# Altium integrated library TI_Logic_Flip-Flop,Latch,Register.IntLib: 2598 symbols (part 71 of 122)
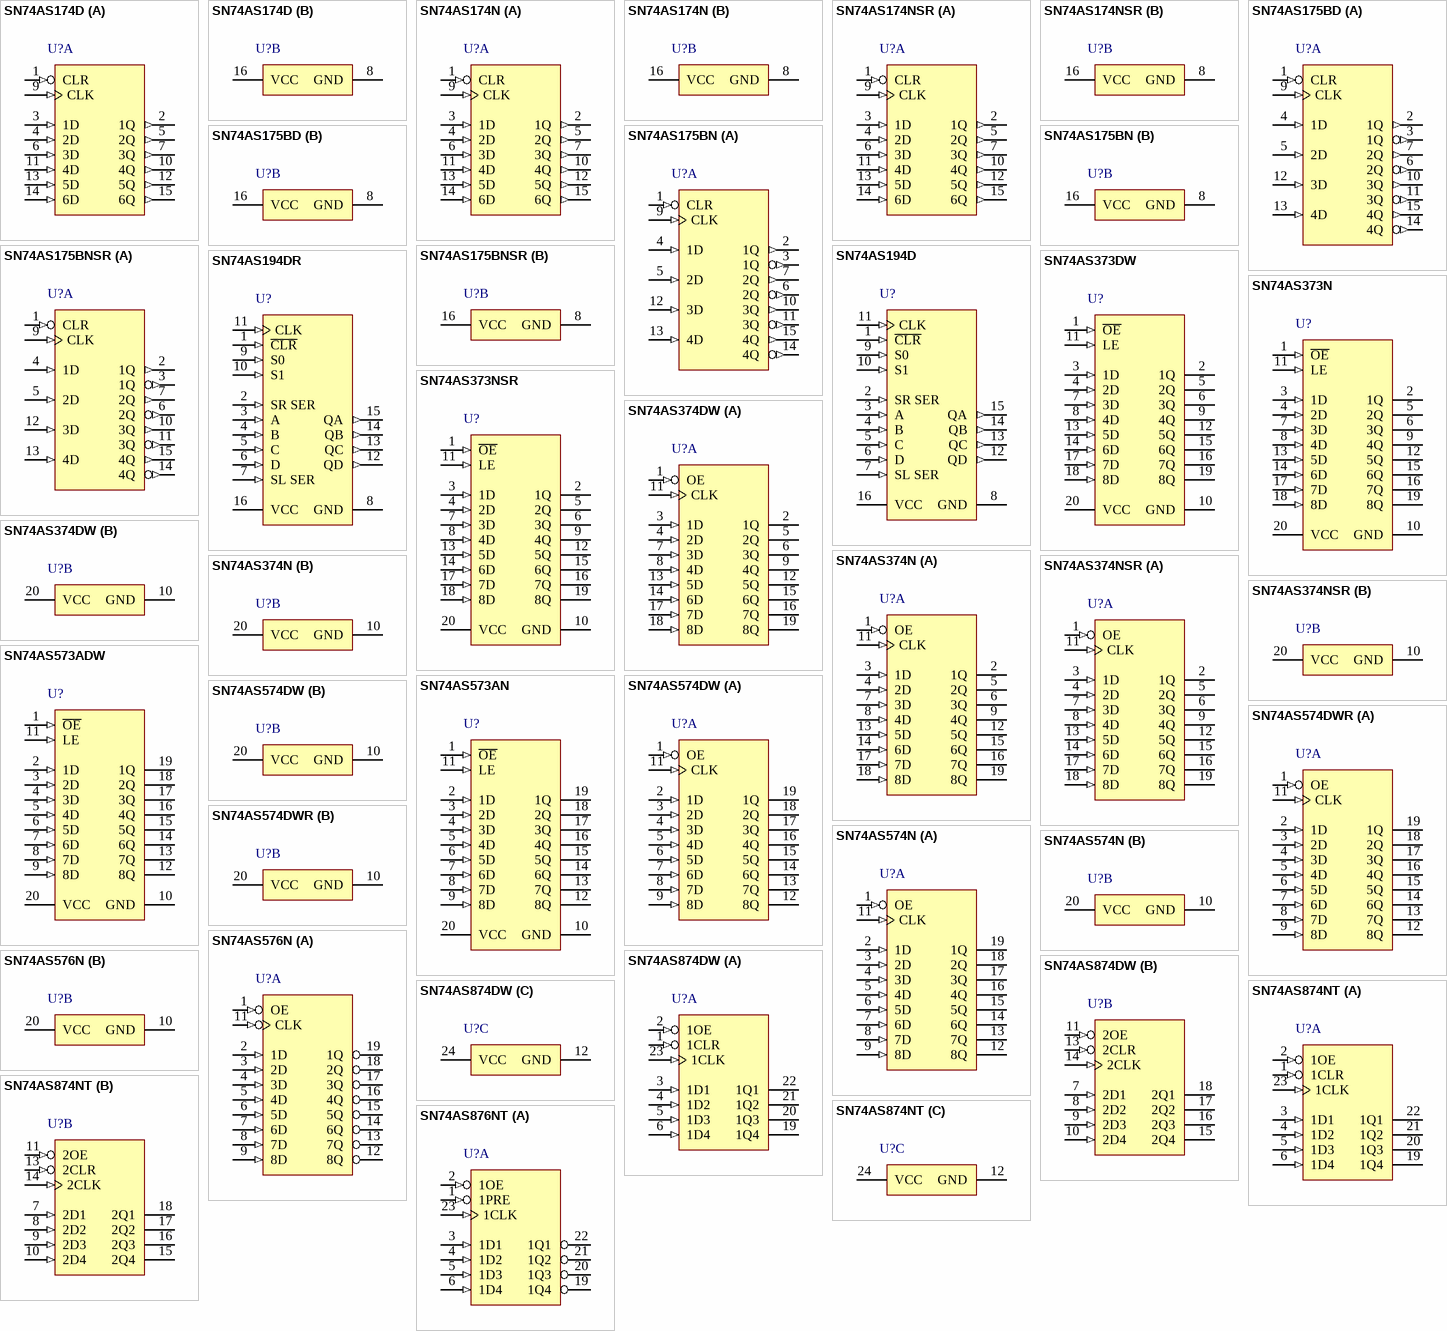
[diagram p209: symbols SN74AS174D to SN74AS876NT]

## SN74AS373NSR
designator U?
Octal D-Type Transparent Latches with 3-state Outputs, NS0020A, LARGE T&R; Generic Part Number: SN74AS373; Manufacturer: Texas Instruments; PartNumber: SN74AS373NSR; VCC(Min)(V): 4.5; VCC(Max)(V): 5.5; Output Type: TTL; Logic: True; Static Current: 87.5; ICC @ Nom Voltage(Max)(mA): 100; Bits(#): 8; F @ Nom Voltage(Max)(Mhz): 125; Rating: Catalog; Technology Family: AS; Voltage(Nom)(V): 5; Schmitt Trigger: No; Output Drive (IOL/IOH)(Max)(mA): 48/-15; Output Logic: Non-inverted; 3-State Output: Yes; tpd @ Nom Voltage(Max)(ns): 6; DatasheetVersion: SDAS083C; PackageReference: NS0020A; Supplier 1: Digi-Key; Supplier Part Number 1: 296-29129-2-ND; Supplier 2: Digi-Key; Supplier Part Number 2: 296-29129-1-ND; Supplier 3: Digi-Key; Supplier Part Number 3: 296-29129-6-ND; Supplier 4: Mouser; Supplier Part Number 4: 595-SN74AS373NSR; Input Type: TTL; Operating Temperature Range(C): 0 to 70; ComponentLink1Description: Manufacturer URL; ComponentLink1URL: http://www.ti.com/; ComponentLink2Description: Datasheet; ComponentLink2URL: http://www.ti.com/lit/ds/symlink/sn74as373.pdf; ComponentLink3Description: Package Specification; ComponentLink3URL: http://www.ti.com/lit/ml/msop002a/msop002a.pdf
footprint NS0020A_N (SOIC,20-Leads,Body 12.9x5.6mm,Pitch 1.27mm,IPC Medium Density)
footprint NS0020A_M (SOIC,20-Leads,Body 12.9x5.6mm,Pitch 1.27mm,IPC Low Density)
footprint NS0020A_L (SOIC,20-Leads,Body 12.9x5.6mm,Pitch 1.27mm,IPC High Density)
pins: 1 ~{OE} (in) "Output Enable", 2 1Q (hiz) "1Q Output", 3 1D (in) "1D Input", 4 2D (in) "2D Input", 5 2Q (hiz) "2Q Output", 6 3Q (hiz) "3Q Output", 7 3D (in) "3D Input", 8 4D (in) "4D Input", 9 4Q (hiz) "4Q Output", 10 GND (power) "Ground Pin", 11 LE (in) "Latch Enable", 12 5Q (hiz) "5Q Output", 13 5D (in) "5D Input", 14 6D (in) "6D Input", 15 6Q (hiz) "6Q Output", 16 7Q (hiz) "7Q Output", 17 7D (in) "7D Input", 18 8D (in) "8D Input", 19 8Q (hiz) "8Q Output", 20 VCC (power) "Power Pin"

## SN74AS374DW
designator U?
Octal D-Type Edge Triggered Flip-Flops with 3-State Outputs, DW0020A, TUBE; Generic Part Number: SN74AS374; Manufacturer: Texas Instruments; PartNumber: SN74AS374DW; VCC(Min)(V): 4.5; VCC(Max)(V): 5.5; Output Type: TTL; ICC @ Nom Voltage(Max)(mA): 128; Bits(#): 8; F @ Nom Voltage(Max)(Mhz): 125; Rating: Catalog; Technology Family: AS; Voltage(Nom)(V): 5; Schmitt Trigger: No; Output Drive (IOL/IOH)(Max)(mA): 48/-15; Output Logic: Non-inverted; 3-State Output: Yes; tpd @ Nom Voltage(Max)(ns): 9; DatasheetVersion: SDAS167C; PackageReference: DW0020A; Supplier 1: Digi-Key; Supplier Part Number 1: 296-6356-5-ND; Supplier 2: Mouser; Supplier Part Number 2: 595-SN74AS374DW; Input Type: TTL; Operating Temperature Range(C): 0 to 70; Code_JEDEC: MS-013; ComponentLink1Description: Manufacturer URL; ComponentLink1URL: http://www.ti.com/; ComponentLink2Description: Datasheet; ComponentLink2URL: http://www.ti.com/lit/ds/symlink/sn74as374.pdf; ComponentLink3Description: Package Specification; ComponentLink3URL: http://www.ti.com/lit/ml/mpds173a/mpds173a.pdf
footprint DW0020A_N (SOIC, 20-Leads, Body 13x7.6mm, Pitch 1.27mm, IPC Medium Density)
footprint DW0020A_M (SOIC, 20-Leads, Body 13x7.6mm, Pitch 1.27mm, IPC Low Density)
footprint DW0020A_L (SOIC, 20-Leads, Body 13x7.6mm, Pitch 1.27mm, IPC High Density)
part A pins: 1 OE (in), 2 1Q (hiz), 3 1D (in), 4 2D (in), 5 2Q (hiz), 6 3Q (hiz), 7 3D (in), 8 4D (in), 9 4Q (hiz), 11 CLK (in), 12 5Q (hiz), 13 5D (in), 14 6D (in), 15 6Q (hiz), 16 7Q (hiz), 17 7D (in), 18 8D (in), 19 8Q (hiz)
part B pins: 10 GND (power), 20 VCC (power)

## SN74AS374N
designator U?
Octal D-Type Edge Triggered Flip-Flops with 3-State Outputs, N0020A, TUBE; Generic Part Number: SN74AS374; Manufacturer: Texas Instruments; PartNumber: SN74AS374N; VCC(Min)(V): 4.5; VCC(Max)(V): 5.5; Output Type: TTL; ICC @ Nom Voltage(Max)(mA): 128; Bits(#): 8; F @ Nom Voltage(Max)(Mhz): 125; Rating: Catalog; Technology Family: AS; Voltage(Nom)(V): 5; Schmitt Trigger: No; Output Drive (IOL/IOH)(Max)(mA): 48/-15; Output Logic: Non-inverted; 3-State Output: Yes; tpd @ Nom Voltage(Max)(ns): 9; DatasheetVersion: SDAS167C; PackageReference: N0020A; Supplier 1: Digi-Key; Supplier Part Number 1: 296-6357-5-ND; Supplier 2: Farnell; Supplier Part Number 2: 1750002; Supplier 3: Mouser; Supplier Part Number 3: 595-SN74AS374N; Input Type: TTL; Operating Temperature Range(C): 0 to 70; Code_JEDEC: MS-001; ComponentLink1Description: Manufacturer URL; ComponentLink1URL: http://www.ti.com/; ComponentLink2Description: Datasheet; ComponentLink2URL: http://www.ti.com/lit/ds/symlink/sn74as374.pdf; ComponentLink3Description: Package Specification; ComponentLink3URL: http://www.ti.com/lit/ml/mpdi002c/mpdi002c.pdf
footprint N0020A (DIP, 20-Leads, Body 26.9x6.6mm, Pitch 2.54mm)
part A pins: 1 OE (in), 2 1Q (hiz), 3 1D (in), 4 2D (in), 5 2Q (hiz), 6 3Q (hiz), 7 3D (in), 8 4D (in), 9 4Q (hiz), 11 CLK (in), 12 5Q (hiz), 13 5D (in), 14 6D (in), 15 6Q (hiz), 16 7Q (hiz), 17 7D (in), 18 8D (in), 19 8Q (hiz)
part B pins: 10 GND (power), 20 VCC (power)

## SN74AS374NSR
designator U?
Octal D-Type Edge Triggered Flip-Flops with 3-State Outputs, NS0020A, LARGE T&R; Generic Part Number: SN74AS374; Manufacturer: Texas Instruments; PartNumber: SN74AS374NSR; VCC(Min)(V): 4.5; VCC(Max)(V): 5.5; Output Type: TTL; ICC @ Nom Voltage(Max)(mA): 128; Bits(#): 8; F @ Nom Voltage(Max)(Mhz): 125; Rating: Catalog; Technology Family: AS; Voltage(Nom)(V): 5; Schmitt Trigger: No; Output Drive (IOL/IOH)(Max)(mA): 48/-15; Output Logic: Non-inverted; 3-State Output: Yes; tpd @ Nom Voltage(Max)(ns): 9; DatasheetVersion: SDAS167C; PackageReference: NS0020A; Supplier 1: Digi-Key; Supplier Part Number 1: 296-28872-2-ND; Supplier 2: Digi-Key; Supplier Part Number 2: 296-28872-1-ND; Supplier 3: Digi-Key; Supplier Part Number 3: 296-28872-6-ND; Supplier 4: Mouser; Supplier Part Number 4: 595-SN74AS374NSR; Input Type: TTL; Operating Temperature Range(C): 0 to 70; ComponentLink1Description: Manufacturer URL; ComponentLink1URL: http://www.ti.com/; ComponentLink2Description: Datasheet; ComponentLink2URL: http://www.ti.com/lit/ds/symlink/sn74as374.pdf; ComponentLink3Description: Package Specification; ComponentLink3URL: http://www.ti.com/lit/ml/msop002a/msop002a.pdf
footprint NS0020A_N (SOIC,20-Leads,Body 12.9x5.6mm,Pitch 1.27mm,IPC Medium Density)
footprint NS0020A_M (SOIC,20-Leads,Body 12.9x5.6mm,Pitch 1.27mm,IPC Low Density)
footprint NS0020A_L (SOIC,20-Leads,Body 12.9x5.6mm,Pitch 1.27mm,IPC High Density)
part A pins: 1 OE (in), 2 1Q (hiz), 3 1D (in), 4 2D (in), 5 2Q (hiz), 6 3Q (hiz), 7 3D (in), 8 4D (in), 9 4Q (hiz), 11 CLK (in), 12 5Q (hiz), 13 5D (in), 14 6D (in), 15 6Q (hiz), 16 7Q (hiz), 17 7D (in), 18 8D (in), 19 8Q (hiz)
part B pins: 10 GND (power), 20 VCC (power)

## SN74AS573ADW
designator U?
Octal D-Type Transparent Latches With 3-State Outputs, DW0020A, TUBE; Generic Part Number: SN74AS573A; Manufacturer: Texas Instruments; PartNumber: SN74AS573ADW; VCC(Min)(V): 4.5; VCC(Max)(V): 5.5; Output Type: TTL; Logic: True; Static Current: 91.5; ICC @ Nom Voltage(Max)(mA): 106; Bits(#): 8; F @ Nom Voltage(Max)(Mhz): 125; Rating: Catalog; Technology Family: AS; Voltage(Nom)(V): 5; Schmitt Trigger: No; Output Drive (IOL/IOH)(Max)(mA): 48/-15; Output Logic: Non-inverted; 3-State Output: Yes; DatasheetVersion: SDAS048D; PackageReference: DW0020A; Supplier 1: Digi-Key; Supplier Part Number 1: 296-6361-5-ND; Supplier 2: Farnell; Supplier Part Number 2: 1750120; Supplier 3: Mouser; Supplier Part Number 3: 595-SN74AS573ADW; Input Type: TTL; Operating Temperature Range(C): 0 to 70; tpd @ Nom Voltage(Max)(ns): 8; Code_JEDEC: MS-013; ComponentLink1Description: Manufacturer URL; ComponentLink1URL: http://www.ti.com/; ComponentLink2Description: Datasheet; ComponentLink2URL: http://www.ti.com/lit/ds/symlink/sn74as573a.pdf; ComponentLink3Description: Package Specification; ComponentLink3URL: http://www.ti.com/lit/ml/mpds173a/mpds173a.pdf
footprint DW0020A_N (SOIC, 20-Leads, Body 13x7.6mm, Pitch 1.27mm, IPC Medium Density)
footprint DW0020A_M (SOIC, 20-Leads, Body 13x7.6mm, Pitch 1.27mm, IPC Low Density)
footprint DW0020A_L (SOIC, 20-Leads, Body 13x7.6mm, Pitch 1.27mm, IPC High Density)
pins: 1 ~{OE} (in), 2 1D (in), 3 2D (in), 4 3D (in), 5 4D (in), 6 5D (in), 7 6D (in), 8 7D (in), 9 8D (in), 10 GND (power), 11 LE (in), 12 8Q (hiz), 13 7Q (hiz), 14 6Q (hiz), 15 5Q (hiz), 16 4Q (hiz), 17 3Q (hiz), 18 2Q (hiz), 19 1Q (hiz), 20 VCC (power)

## SN74AS573AN
designator U?
Octal D-Type Transparent Latches With 3-State Outputs, N0020A, TUBE; Generic Part Number: SN74AS573A; Manufacturer: Texas Instruments; PartNumber: SN74AS573AN; VCC(Min)(V): 4.5; VCC(Max)(V): 5.5; Output Type: TTL; Logic: True; Static Current: 91.5; ICC @ Nom Voltage(Max)(mA): 106; Bits(#): 8; F @ Nom Voltage(Max)(Mhz): 125; Rating: Catalog; Technology Family: AS; Voltage(Nom)(V): 5; Schmitt Trigger: No; Output Drive (IOL/IOH)(Max)(mA): 48/-15; Output Logic: Non-inverted; 3-State Output: Yes; DatasheetVersion: SDAS048D; PackageReference: N0020A; Supplier 1: Digi-Key; Supplier Part Number 1: 296-6362-5-ND; Supplier 2: Newark; Supplier Part Number 2: 08F6213; Supplier 3: Mouser; Supplier Part Number 3: 595-SN74AS573AN; Input Type: TTL; Operating Temperature Range(C): 0 to 70; tpd @ Nom Voltage(Max)(ns): 8; Code_JEDEC: MS-001; ComponentLink1Description: Manufacturer URL; ComponentLink1URL: http://www.ti.com/; ComponentLink2Description: Datasheet; ComponentLink2URL: http://www.ti.com/lit/ds/symlink/sn74as573a.pdf; ComponentLink3Description: Package Specification; ComponentLink3URL: http://www.ti.com/lit/ml/mpdi002c/mpdi002c.pdf
footprint N0020A (DIP, 20-Leads, Body 26.9x6.6mm, Pitch 2.54mm)
pins: 1 ~{OE} (in), 2 1D (in), 3 2D (in), 4 3D (in), 5 4D (in), 6 5D (in), 7 6D (in), 8 7D (in), 9 8D (in), 10 GND (power), 11 LE (in), 12 8Q (hiz), 13 7Q (hiz), 14 6Q (hiz), 15 5Q (hiz), 16 4Q (hiz), 17 3Q (hiz), 18 2Q (hiz), 19 1Q (hiz), 20 VCC (power)

## SN74AS574DW
designator U?
Octal D-Type Edge-Triggered Flip-Flops With 3-State Outputs, DW0020A, TUBE; Generic Part Number: SN74AS574; Manufacturer: Texas Instruments; PartNumber: SN74AS574DW; VCC(Min)(V): 4.5; VCC(Max)(V): 5.5; Output Type: TTL; ICC @ Nom Voltage(Max)(mA): 142; Bits(#): 8; F @ Nom Voltage(Max)(Mhz): 125; Rating: Catalog; Technology Family: AS; Voltage(Nom)(V): 5; Schmitt Trigger: No; Output Drive (IOL/IOH)(Max)(mA): 48/-15; Output Logic: Non-inverted; 3-State Output: Yes; tpd @ Nom Voltage(Max)(ns): 9; DatasheetVersion: SDAS165B; PackageReference: DW0020A; Supplier 1: Digi-Key; Supplier Part Number 1: 296-6363-5-ND; Supplier 2: Farnell; Supplier Part Number 2: 1750003; Supplier 3: Mouser; Supplier Part Number 3: 595-SN74AS574DW; Input Type: TTL; Operating Temperature Range(C): 0 to 70; Code_JEDEC: MS-013; ComponentLink1Description: Manufacturer URL; ComponentLink1URL: http://www.ti.com/; ComponentLink2Description: Datasheet; ComponentLink2URL: http://www.ti.com/lit/ds/symlink/sn74as574.pdf; ComponentLink3Description: Package Specification; ComponentLink3URL: http://www.ti.com/lit/ml/mpds173a/mpds173a.pdf
footprint DW0020A_N (SOIC, 20-Leads, Body 13x7.6mm, Pitch 1.27mm, IPC Medium Density)
footprint DW0020A_M (SOIC, 20-Leads, Body 13x7.6mm, Pitch 1.27mm, IPC Low Density)
footprint DW0020A_L (SOIC, 20-Leads, Body 13x7.6mm, Pitch 1.27mm, IPC High Density)
part A pins: 1 OE (in), 2 1D (in), 3 2D (in), 4 3D (in), 5 4D (in), 6 5D (in), 7 6D (in), 8 7D (in), 9 8D (in), 11 CLK (in), 12 8Q (hiz), 13 7Q (hiz), 14 6Q (hiz), 15 5Q (hiz), 16 4Q (hiz), 17 3Q (hiz), 18 2Q (hiz), 19 1Q (hiz)
part B pins: 10 GND (power), 20 VCC (power)

## SN74AS574DWR
designator U?
Octal D-Type Edge-Triggered Flip-Flops With 3-State Outputs, DW0020A, LARGE T&R; Generic Part Number: SN74AS574; Manufacturer: Texas Instruments; PartNumber: SN74AS574DWR; VCC(Min)(V): 4.5; VCC(Max)(V): 5.5; Output Type: TTL; ICC @ Nom Voltage(Max)(mA): 142; Bits(#): 8; F @ Nom Voltage(Max)(Mhz): 125; Rating: Catalog; Technology Family: AS; Voltage(Nom)(V): 5; Schmitt Trigger: No; Output Drive (IOL/IOH)(Max)(mA): 48/-15; Output Logic: Non-inverted; 3-State Output: Yes; tpd @ Nom Voltage(Max)(ns): 9; DatasheetVersion: SDAS165B; PackageReference: DW0020A; Supplier 1: Digi-Key; Supplier Part Number 1: 296-28999-2-ND; Supplier 2: Digi-Key; Supplier Part Number 2: 296-28999-1-ND; Supplier 3: Digi-Key; Supplier Part Number 3: 296-28999-6-ND; Supplier 4: Mouser; Supplier Part Number 4: 595-SN74AS574DWR; Input Type: TTL; Operating Temperature Range(C): 0 to 70; Code_JEDEC: MS-013; ComponentLink1Description: Manufacturer URL; ComponentLink1URL: http://www.ti.com/; ComponentLink2Description: Datasheet; ComponentLink2URL: http://www.ti.com/lit/ds/symlink/sn74as574.pdf; ComponentLink3Description: Package Specification; ComponentLink3URL: http://www.ti.com/lit/ml/mpds173a/mpds173a.pdf
footprint DW0020A_N (SOIC, 20-Leads, Body 13x7.6mm, Pitch 1.27mm, IPC Medium Density)
footprint DW0020A_M (SOIC, 20-Leads, Body 13x7.6mm, Pitch 1.27mm, IPC Low Density)
footprint DW0020A_L (SOIC, 20-Leads, Body 13x7.6mm, Pitch 1.27mm, IPC High Density)
part A pins: 1 OE (in), 2 1D (in), 3 2D (in), 4 3D (in), 5 4D (in), 6 5D (in), 7 6D (in), 8 7D (in), 9 8D (in), 11 CLK (in), 12 8Q (hiz), 13 7Q (hiz), 14 6Q (hiz), 15 5Q (hiz), 16 4Q (hiz), 17 3Q (hiz), 18 2Q (hiz), 19 1Q (hiz)
part B pins: 10 GND (power), 20 VCC (power)

## SN74AS574N
designator U?
Octal D-Type Edge-Triggered Flip-Flops With 3-State Outputs, N0020A, TUBE; Generic Part Number: SN74AS574; Manufacturer: Texas Instruments; PartNumber: SN74AS574N; VCC(Min)(V): 4.5; VCC(Max)(V): 5.5; Output Type: TTL; ICC @ Nom Voltage(Max)(mA): 142; Bits(#): 8; F @ Nom Voltage(Max)(Mhz): 125; Rating: Catalog; Technology Family: AS; Voltage(Nom)(V): 5; Schmitt Trigger: No; Output Drive (IOL/IOH)(Max)(mA): 48/-15; Output Logic: Non-inverted; 3-State Output: Yes; tpd @ Nom Voltage(Max)(ns): 9; DatasheetVersion: SDAS165B; PackageReference: N0020A; Supplier 1: Digi-Key; Supplier Part Number 1: 296-33811-5-ND; Supplier 2: Farnell; Supplier Part Number 2: 1749828; Supplier 3: Mouser; Supplier Part Number 3: 595-SN74AS574N; Input Type: TTL; Operating Temperature Range(C): 0 to 70; Code_JEDEC: MS-001; ComponentLink1Description: Manufacturer URL; ComponentLink1URL: http://www.ti.com/; ComponentLink2Description: Datasheet; ComponentLink2URL: http://www.ti.com/lit/ds/symlink/sn74as574.pdf; ComponentLink3Description: Package Specification; ComponentLink3URL: http://www.ti.com/lit/ml/mpdi002c/mpdi002c.pdf
footprint N0020A (DIP, 20-Leads, Body 26.9x6.6mm, Pitch 2.54mm)
part A pins: 1 OE (in), 2 1D (in), 3 2D (in), 4 3D (in), 5 4D (in), 6 5D (in), 7 6D (in), 8 7D (in), 9 8D (in), 11 CLK (in), 12 8Q (hiz), 13 7Q (hiz), 14 6Q (hiz), 15 5Q (hiz), 16 4Q (hiz), 17 3Q (hiz), 18 2Q (hiz), 19 1Q (hiz)
part B pins: 10 GND (power), 20 VCC (power)

## SN74AS576N
designator U?
Octal D-Type Edge-Triggered Flip-Flops With 3-State Outputs, N0020A, TUBE; Generic Part Number: SN74AS576; Manufacturer: Texas Instruments; PartNumber: SN74AS576N; VCC(Min)(V): 4.5; VCC(Max)(V): 5.5; Output Type: TTL; ICC @ Nom Voltage(Max)(mA): 135; Bits(#): 8; F @ Nom Voltage(Max)(Mhz): 125; Rating: Catalog; Technology Family: AS; Voltage(Nom)(V): 5; Schmitt Trigger: No; Output Drive (IOL/IOH)(Max)(mA): 48/-15; Output Logic: Inverted; 3-State Output: Yes; tpd @ Nom Voltage(Max)(ns): 9; DatasheetVersion: SDAS065B; PackageReference: N0020A; Supplier 1: Digi-Key; Supplier Part Number 1: 296-6365-5-ND; Supplier 2: Farnell; Supplier Part Number 2: 1750005; Supplier 3: Mouser; Supplier Part Number 3: 595-SN74AS576N; Input Type: TTL; Operating Temperature Range(C): 0 to 70; Code_JEDEC: MS-001; ComponentLink1Description: Manufacturer URL; ComponentLink1URL: http://www.ti.com/; ComponentLink2Description: Datasheet; ComponentLink2URL: http://www.ti.com/lit/ds/symlink/sn74as576.pdf; ComponentLink3Description: Package Specification; ComponentLink3URL: http://www.ti.com/lit/ml/mpdi002c/mpdi002c.pdf
footprint N0020A (DIP, 20-Leads, Body 26.9x6.6mm, Pitch 2.54mm)
part A pins: 1 OE (in), 2 1D (in), 3 2D (in), 4 3D (in), 5 4D (in), 6 5D (in), 7 6D (in), 8 7D (in), 9 8D (in), 11 CLK (in), 12 8Q (hiz), 13 7Q (hiz), 14 6Q (hiz), 15 5Q (hiz), 16 4Q (hiz), 17 3Q (hiz), 18 2Q (hiz), 19 1Q (hiz)
part B pins: 10 GND (power), 20 VCC (power)

## SN74AS874DW
designator U?
Dual 4-Bit D-Type Edge-Triggered Flip-Flops, DW0024A, TUBE; Generic Part Number: SN74AS874; Manufacturer: Texas Instruments; PartNumber: SN74AS874DW; VCC(Min)(V): 4.5; VCC(Max)(V): 5.5; Output Type: TTL; ICC @ Nom Voltage(Max)(mA): 160; Bits(#): 8; F @ Nom Voltage(Max)(Mhz): 125; Rating: Catalog; Technology Family: AS; Voltage(Nom)(V): 5; Schmitt Trigger: No; Output Drive (IOL/IOH)(Max)(mA): 48/-15; Output Logic: Non-inverted; 3-State Output: Yes; tpd @ Nom Voltage(Max)(ns): 10.5; DatasheetVersion: SDAS061C; PackageReference: DW0024A; Supplier 1: Digi-Key; Supplier Part Number 1: SN74AS874DW-ND; Supplier 2: Farnell; Supplier Part Number 2: 1749831; Supplier 3: Mouser; Supplier Part Number 3: 595-SN74AS874DW; Input Type: TTL; Operating Temperature Range(C): 0 to 70; Code_JEDEC: MS-013; ComponentLink1Description: Manufacturer URL; ComponentLink1URL: http://www.ti.com/; ComponentLink2Description: Datasheet; ComponentLink2URL: http://www.ti.com/lit/ds/symlink/sn74as874.pdf; ComponentLink3Description: Package Specification; ComponentLink3URL: http://www.ti.com/lit/ml/mpds174a/mpds174a.pdf
footprint DW0024A_N (SOIC, 24-Leads, Body 15.6x7.6mm, Pitch 1.27mm, IPC Medium Density)
footprint DW0024A_M (SOIC, 24-Leads, Body 15.6x7.6mm, Pitch 1.27mm, IPC Low Density)
footprint DW0024A_L (SOIC, 24-Leads, Body 15.6x7.6mm, Pitch 1.27mm, IPC High Density)
part A pins: 1 1CLR (in), 2 1OE (in), 3 1D1 (in), 4 1D2 (in), 5 1D3 (in), 6 1D4 (in), 19 1Q4 (hiz), 20 1Q3 (hiz), 21 1Q2 (hiz), 22 1Q1 (hiz), 23 1CLK (in)
part B pins: 7 2D1 (in), 8 2D2 (in), 9 2D3 (in), 10 2D4 (in), 11 2OE (in), 13 2CLR (in), 14 2CLK (in), 15 2Q4 (hiz), 16 2Q3 (hiz), 17 2Q2 (hiz), 18 2Q1 (hiz)
part C pins: 12 GND (power), 24 VCC (power)

## SN74AS874NT
designator U?
Dual 4-Bit D-Type Edge-Triggered Flip-Flops, NT0024A, TUBE; Generic Part Number: SN74AS874; Manufacturer: Texas Instruments; PartNumber: SN74AS874NT; VCC(Min)(V): 4.5; VCC(Max)(V): 5.5; Output Type: TTL; ICC @ Nom Voltage(Max)(mA): 160; Bits(#): 8; F @ Nom Voltage(Max)(Mhz): 125; Rating: Catalog; Technology Family: AS; Voltage(Nom)(V): 5; Schmitt Trigger: No; Output Drive (IOL/IOH)(Max)(mA): 48/-15; Output Logic: Non-inverted; 3-State Output: Yes; tpd @ Nom Voltage(Max)(ns): 10.5; DatasheetVersion: SDAS061C; PackageReference: NT0024A; Supplier 1: Digi-Key; Supplier Part Number 1: 296-6381-5-ND; Supplier 2: Newark; Supplier Part Number 2: 08F6266; Supplier 3: Mouser; Supplier Part Number 3: 595-SN74AS874NT; Input Type: TTL; Operating Temperature Range(C): 0 to 70; ComponentLink1Description: Manufacturer URL; ComponentLink1URL: http://www.ti.com/; ComponentLink2Description: Datasheet; ComponentLink2URL: http://www.ti.com/lit/ds/symlink/sn74as874.pdf; ComponentLink3Description: Package Specification; ComponentLink3URL: http://www.ti.com/lit/ml/mpdi004a/mpdi004a.pdf
footprint NT0024A (DIP, 24-Leads, Body 32.05x7.1mm, Pitch 2.54mm)
part A pins: 1 1CLR (in), 2 1OE (in), 3 1D1 (in), 4 1D2 (in), 5 1D3 (in), 6 1D4 (in), 19 1Q4 (hiz), 20 1Q3 (hiz), 21 1Q2 (hiz), 22 1Q1 (hiz), 23 1CLK (in)
part B pins: 7 2D1 (in), 8 2D2 (in), 9 2D3 (in), 10 2D4 (in), 11 2OE (in), 13 2CLR (in), 14 2CLK (in), 15 2Q4 (hiz), 16 2Q3 (hiz), 17 2Q2 (hiz), 18 2Q1 (hiz)
part C pins: 12 GND (power), 24 VCC (power)

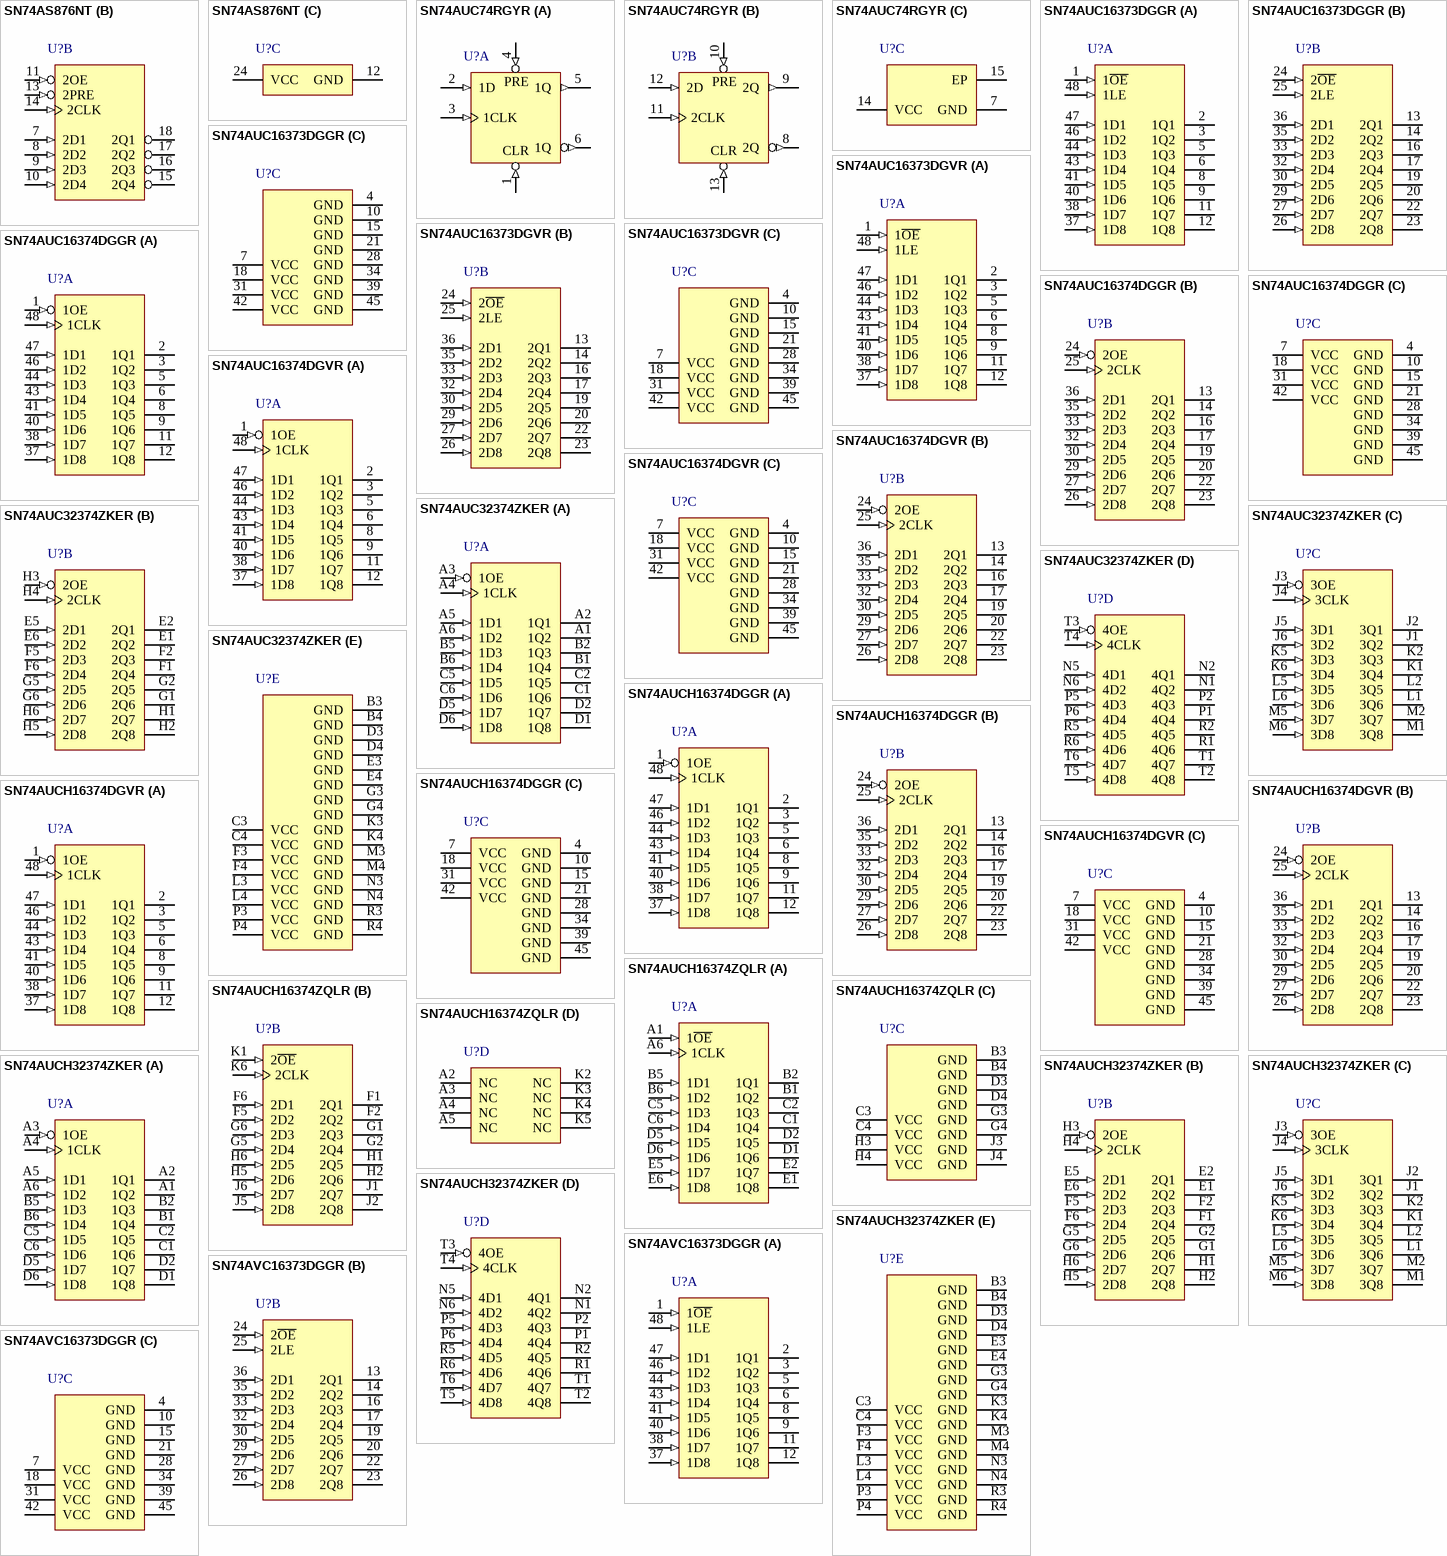
[diagram p83: symbols SN74AS876NT to SN74AVC16373DGGR]

## SN74AS876NT
designator U?
Dual 4-Bit D-Type Edge-Triggered Flip-Flops, NT0024A, TUBE; Generic Part Number: SN74AS876; Manufacturer: Texas Instruments; PartNumber: SN74AS876NT; DatasheetVersion: SDAS061C; PackageReference: NT0024A; Supplier 1: Digi-Key; Supplier Part Number 1: 296-33824-5-ND; Supplier 2: Mouser; Supplier Part Number 2: 595-SN74AS876NT; ComponentLink1Description: Manufacturer URL; ComponentLink1URL: http://www.ti.com/; ComponentLink2Description: Datasheet; ComponentLink2URL: http://www.ti.com/lit/ds/symlink/sn74as876.pdf; ComponentLink3Description: Package Specification; ComponentLink3URL: http://www.ti.com/lit/ml/mpdi004a/mpdi004a.pdf
footprint NT0024A (DIP, 24-Leads, Body 32.05x7.1mm, Pitch 2.54mm)
part A pins: 1 1PRE (in), 2 1OE (in), 3 1D1 (in), 4 1D2 (in), 5 1D3 (in), 6 1D4 (in), 19 1Q4 (hiz), 20 1Q3 (hiz), 21 1Q2 (hiz), 22 1Q1 (hiz), 23 1CLK (in)
part B pins: 7 2D1 (in), 8 2D2 (in), 9 2D3 (in), 10 2D4 (in), 11 2OE (in), 13 2PRE (in), 14 2CLK (in), 15 2Q4 (hiz), 16 2Q3 (hiz), 17 2Q2 (hiz), 18 2Q1 (hiz)
part C pins: 12 GND (power), 24 VCC (power)

## SN74AUC74RGYR
designator U?
Dual Positive-Edge-Triggered D-Type Flip-Flops with Clear and Preset, RGY0014A, LARGE T&R; Generic Part Number: SN74AUC74; Manufacturer: Texas Instruments; PartNumber: SN74AUC74RGYR; VCC(Min)(V): 0.8; VCC(Max)(V): 2.7; Output Type: CMOS; ICC @ Nom Voltage(Max)(mA): 0.01; Bits(#): 2; F @ Nom Voltage(Max)(Mhz): 250; Rating: Catalog; Technology Family: AUC; Voltage(Nom)(V): 0.8,1.2,1.5,1.8,2.5; Schmitt Trigger: No; Output Drive (IOL/IOH)(Max)(mA): 9/-9; Output Logic: Inverted,Non-inverted; tpd @ Nom Voltage(Max)(ns): 9.5,4,2.5,2.1,1.4; DatasheetVersion: SCES483A; PackageReference: RGY0014A; Supplier 1: Digi-Key; Supplier Part Number 1: 296-17820-2-ND; Supplier 2: Digi-Key; Supplier Part Number 2: 296-17820-1-ND; Supplier 3: Digi-Key; Supplier Part Number 3: 296-17820-6-ND; Supplier 4: Farnell; Supplier Part Number 4: 1606283; Supplier 5: Farnell; Supplier Part Number 5: 1606283RL; Supplier 6: Newark; Supplier Part Number 6: 87H2615; Supplier 7: Mouser; Supplier Part Number 7: 595-SN74AUC74RGYR; Input Type: CMOS; Operating Temperature Range(C): -40 to 85; 3-State Output: No; Code_JEDEC: MO-241; ComponentLink1Description: Manufacturer URL; ComponentLink1URL: http://www.ti.com/; ComponentLink2Description: Datasheet; ComponentLink2URL: http://www.ti.com/lit/ds/symlink/sn74auc74.pdf; ComponentLink3Description: Package Specification; ComponentLink3URL: http://www.ti.com/lit/ml/mpqf114g/mpqf114g.pdf
footprint RGY0014A_V (QFN, 14-Leads, Body 3.5x3.5mm, Thermal Pad 2.05x2.05mm, TI Recommend)
part A pins: 1 1~{CLR} (in), 2 1D (in), 3 1CLK (in), 4 1~{PRE} (in), 5 1Q (out), 6 1Q (out)
part B pins: 8 2Q (out), 9 2Q (out), 10 2~{PRE} (in), 11 2CLK (in), 12 2D (in), 13 2~{CLR} (in)
part C pins: 7 GND (power), 14 VCC (power) "Supply voltage input", 15 EP
part A text: PRE; CLR
part B text: PRE; CLR

## SN74AUC16373DGGR
designator U?
16-Bit Transparent D-Type Latch With 3-State Outputs, DGG0048A, LARGE T&R; Generic Part Number: SN74AUC16373; Manufacturer: Texas Instruments; PartNumber: SN74AUC16373DGGR; VCC(Min)(V): 0.8; VCC(Max)(V): 2.7; Output Type: CMOS; Logic: True; Static Current: 20 uA; ICC @ Nom Voltage(Max)(mA): 0.02; Input Type: CMOS,TTL; Bits(#): 16; F @ Nom Voltage(Max)(Mhz): 250; Rating: Catalog; Technology Family: AUC; Voltage(Nom)(V): 0.8,1.2,1.5,1.8,2.5; Schmitt Trigger: No; Output Drive (IOL/IOH)(Max)(mA): 9/-9; Output Logic: Non-inverted; 3-State Output: Yes; tpd @ Nom Voltage(Max)(ns): 8,3.8,2.4,1.9; DatasheetVersion: SCES401C; PackageReference: DGG0048A; Supplier 1: Digi-Key; Supplier Part Number 1: 296-15416-2-ND; Supplier 2: Digi-Key; Supplier Part Number 2: 296-15416-1-ND; Supplier 3: Digi-Key; Supplier Part Number 3: 296-15416-6-ND; Supplier 4: Mouser; Supplier Part Number 4: 595-SN74AUC16373DGGR; Operating Temperature Range(C): -40 to 85; Code_JEDEC: MO-153; ComponentLink1Description: Manufacturer URL; ComponentLink1URL: http://www.ti.com/; ComponentLink2Description: Datasheet; ComponentLink2URL: http://www.ti.com/lit/ds/symlink/sn74auc16373.pdf; ComponentLink3Description: Package Specification; ComponentLink3URL: http://www.ti.com/lit/ml/mtss003d/mtss003d.pdf
footprint DGG0048A_N (TSSOP, 48-Leads, Body 12.6x6.2mm, Pitch 0.5mm, IPC Medium Density)
footprint DGG0048A_M (TSSOP, 48-Leads, Body 12.6x6.2mm, Pitch 0.5mm, IPC Low Density)
footprint DGG0048A_L (TSSOP, 48-Leads, Body 12.6x6.2mm, Pitch 0.5mm, IPC High Density)
part A pins: 1 1~{OE} (in) "Output Enable 1", 2 1Q1 (hiz) "1Q1 Output", 3 1Q2 (hiz) "1Q2 Output", 5 1Q3 (hiz) "1Q3 Output", 6 1Q4 (hiz) "1Q4 Output", 8 1Q5 (hiz) "1Q5 Output", 9 1Q6 (hiz) "1Q6 Output", 11 1Q7 (hiz) "1Q7 Output", 12 1Q8 (hiz) "1Q8 Output", 37 1D8 (in) "1D8 Input", 38 1D7 (in) "1D7 Input", 40 1D6 (in) "1D6 Input", 41 1D5 (in) "1D5 Input", 43 1D4 (in) "1D4 Input", 44 1D3 (in) "1D3 Input", 46 1D2 (in) "1D2 Input", 47 1D1 (in) "1D1 Input", 48 1LE (in) "Latch Enable 1"
part B pins: 13 2Q1 (hiz) "2Q1 Output", 14 2Q2 (hiz) "2Q2 Output", 16 2Q3 (hiz) "2Q3 Output", 17 2Q4 (hiz) "2Q4 Output", 19 2Q5 (hiz) "Output", 20 2Q6 (hiz) "2Q6 Output", 22 2Q7 (hiz) "2Q7 Output", 23 2Q8 (hiz) "2Q8 Output", 24 2~{OE} (in) "Output Enable 2", 25 2LE (in) "2LE Input", 26 2D8 (in) "2D8 Input", 27 2D7 (in) "2D7 Input", 29 2D6 (in) "2D6 Input", 30 2D5 (in) "2D5 Input", 32 2D4 (in) "2D4 Input", 33 2D3 (in) "2D3 Input", 35 2D2 (in) "2D2 Input", 36 2D1 (in) "2D1 Input"
part C pins: 4 GND (power) "Ground Pin", 7 VCC (power) "Power Pin", 10 GND (power) "Ground Pin", 15 GND (power) "Ground Pin", 18 VCC (power) "Power Pin", 21 GND (power) "Ground Pin", 28 GND (power) "Ground Pin", 31 VCC (power) "Power Pin", 34 GND (power) "Ground Pin", 39 GND (power) "Ground Pin", 42 VCC (power) "Power Pin", 45 GND (power) "Ground Pin"

## SN74AUC16373DGVR
designator U?
16-Bit Transparent D-Type Latch With 3-State Outputs, DGV0048A, LARGE T&R; Generic Part Number: SN74AUC16373; Manufacturer: Texas Instruments; PartNumber: SN74AUC16373DGVR; VCC(Min)(V): 0.8; VCC(Max)(V): 2.7; Output Type: CMOS; Logic: True; Static Current: 20 uA; ICC @ Nom Voltage(Max)(mA): 0.02; Input Type: CMOS,TTL; Bits(#): 16; F @ Nom Voltage(Max)(Mhz): 250; Rating: Catalog; Technology Family: AUC; Voltage(Nom)(V): 0.8,1.2,1.5,1.8,2.5; Schmitt Trigger: No; Output Drive (IOL/IOH)(Max)(mA): 9/-9; Output Logic: Non-inverted; 3-State Output: Yes; tpd @ Nom Voltage(Max)(ns): 8,3.8,2.4,1.9; DatasheetVersion: SCES401C; PackageReference: DGV0048A; Supplier 1: Digi-Key; Supplier Part Number 1: 296-15417-2-ND; Supplier 2: Digi-Key; Supplier Part Number 2: 296-15417-1-ND; Supplier 3: Digi-Key; Supplier Part Number 3: 296-15417-6-ND; Supplier 4: Mouser; Supplier Part Number 4: 595-SN74AUC16373DGVR; Operating Temperature Range(C): -40 to 85; Code_JEDEC: MO-153; ComponentLink1Description: Manufacturer URL; ComponentLink1URL: http://www.ti.com/; ComponentLink2Description: Datasheet; ComponentLink2URL: http://www.ti.com/lit/ds/symlink/sn74auc16373.pdf; ComponentLink3Description: Package Specification; ComponentLink3URL: http://www.ti.com/lit/ml/mpds006c/mpds006c.pdf
footprint DGV0048A_N (SOP, 48-Leads, Body 4.5x9.8mm, Pitch 0.4mm, IPC Medium Density)
footprint DGV0048A_M (SOP, 48-Leads, Body 4.5x9.8mm, Pitch 0.4mm, IPC Low Density)
footprint DGV0048A_L (SOP, 48-Leads, Body 4.5x9.8mm, Pitch 0.4mm, IPC High Density)
part A pins: 1 1~{OE} (in) "Output Enable 1", 2 1Q1 (hiz) "1Q1 Output", 3 1Q2 (hiz) "1Q2 Output", 5 1Q3 (hiz) "1Q3 Output", 6 1Q4 (hiz) "1Q4 Output", 8 1Q5 (hiz) "1Q5 Output", 9 1Q6 (hiz) "1Q6 Output", 11 1Q7 (hiz) "1Q7 Output", 12 1Q8 (hiz) "1Q8 Output", 37 1D8 (in) "1D8 Input", 38 1D7 (in) "1D7 Input", 40 1D6 (in) "1D6 Input", 41 1D5 (in) "1D5 Input", 43 1D4 (in) "1D4 Input", 44 1D3 (in) "1D3 Input", 46 1D2 (in) "1D2 Input", 47 1D1 (in) "1D1 Input", 48 1LE (in) "Latch Enable 1"
part B pins: 13 2Q1 (hiz) "2Q1 Output", 14 2Q2 (hiz) "2Q2 Output", 16 2Q3 (hiz) "2Q3 Output", 17 2Q4 (hiz) "2Q4 Output", 19 2Q5 (hiz) "Output", 20 2Q6 (hiz) "2Q6 Output", 22 2Q7 (hiz) "2Q7 Output", 23 2Q8 (hiz) "2Q8 Output", 24 2~{OE} (in) "Output Enable 2", 25 2LE (in) "2LE Input", 26 2D8 (in) "2D8 Input", 27 2D7 (in) "2D7 Input", 29 2D6 (in) "2D6 Input", 30 2D5 (in) "2D5 Input", 32 2D4 (in) "2D4 Input", 33 2D3 (in) "2D3 Input", 35 2D2 (in) "2D2 Input", 36 2D1 (in) "2D1 Input"
part C pins: 4 GND (power) "Ground Pin", 7 VCC (power) "Power Pin", 10 GND (power) "Ground Pin", 15 GND (power) "Ground Pin", 18 VCC (power) "Power Pin", 21 GND (power) "Ground Pin", 28 GND (power) "Ground Pin", 31 VCC (power) "Power Pin", 34 GND (power) "Ground Pin", 39 GND (power) "Ground Pin", 42 VCC (power) "Power Pin", 45 GND (power) "Ground Pin"

## SN74AUC16374DGGR
designator U?
16-Bit Edge-Triggered D-Type Flip-Flop With 3-State Outputs, DGG0048A, LARGE T&R; Generic Part Number: SN74AUC16374; Manufacturer: Texas Instruments; PartNumber: SN74AUC16374DGGR; VCC(Min)(V): 0.8; VCC(Max)(V): 2.7; Output Type: CMOS; ICC @ Nom Voltage(Max)(mA): 0.02; Input Type: TTL,CMOS; Bits(#): 16; F @ Nom Voltage(Max)(Mhz): 250; Rating: Catalog; Technology Family: AUC; Voltage(Nom)(V): 0.8,1.2,1.5,1.8,2.5; Schmitt Trigger: No; Output Drive (IOL/IOH)(Max)(mA): 9/-9; Output Logic: Non-inverted; 3-State Output: Yes; tpd @ Nom Voltage(Max)(ns): 7.3,4.5,2.9,2.8,2.2; DatasheetVersion: SCES403E; PackageReference: DGG0048A; Supplier 1: Digi-Key; Supplier Part Number 1: 296-15418-2-ND; Supplier 2: Digi-Key; Supplier Part Number 2: 296-15418-1-ND; Supplier 3: Digi-Key; Supplier Part Number 3: 296-15418-6-ND; Supplier 4: Farnell; Supplier Part Number 4: 7456049; Supplier 5: Newark; Supplier Part Number 5: 82H5466; Supplier 6: Mouser; Supplier Part Number 6: 595-SN74AUC16374DGGR; Operating Temperature Range(C): -40 to 85; Code_JEDEC: MO-153; ComponentLink1Description: Manufacturer URL; ComponentLink1URL: http://www.ti.com/; ComponentLink2Description: Datasheet; ComponentLink2URL: http://www.ti.com/lit/ds/symlink/sn74auc16374.pdf; ComponentLink3Description: Package Specification; ComponentLink3URL: http://www.ti.com/lit/ml/mtss003d/mtss003d.pdf
footprint DGG0048A_N (TSSOP, 48-Leads, Body 12.6x6.2mm, Pitch 0.5mm, IPC Medium Density)
footprint DGG0048A_M (TSSOP, 48-Leads, Body 12.6x6.2mm, Pitch 0.5mm, IPC Low Density)
footprint DGG0048A_L (TSSOP, 48-Leads, Body 12.6x6.2mm, Pitch 0.5mm, IPC High Density)
part A pins: 1 1OE (in), 2 1Q1 (hiz), 3 1Q2 (hiz), 5 1Q3 (hiz), 6 1Q4 (hiz), 8 1Q5 (hiz), 9 1Q6 (hiz), 11 1Q7 (hiz), 12 1Q8 (hiz), 37 1D8 (in), 38 1D7 (in), 40 1D6 (in), 41 1D5 (in), 43 1D4 (in), 44 1D3 (in), 46 1D2 (in), 47 1D1 (in), 48 1CLK (in)
part B pins: 13 2Q1 (hiz), 14 2Q2 (hiz), 16 2Q3 (hiz), 17 2Q4 (hiz), 19 2Q5 (hiz), 20 2Q6 (hiz), 22 2Q7 (hiz), 23 2Q8 (hiz), 24 2OE (in), 25 2CLK (in), 26 2D8 (in), 27 2D7 (in), 29 2D6 (in), 30 2D5 (in), 32 2D4 (in), 33 2D3 (in), 35 2D2 (in), 36 2D1 (in)
part C pins: 4 GND (power), 7 VCC (power), 10 GND (power), 15 GND (power), 18 VCC (power), 21 GND (power), 28 GND (power), 31 VCC (power), 34 GND (power), 39 GND (power), 42 VCC (power), 45 GND (power)

## SN74AUC16374DGVR
designator U?
16-Bit Edge-Triggered D-Type Flip-Flop With 3-State Outputs, DGV0048A, LARGE T&R; Generic Part Number: SN74AUC16374; Manufacturer: Texas Instruments; PartNumber: SN74AUC16374DGVR; VCC(Min)(V): 0.8; VCC(Max)(V): 2.7; Output Type: CMOS; ICC @ Nom Voltage(Max)(mA): 0.02; Input Type: TTL,CMOS; Bits(#): 16; F @ Nom Voltage(Max)(Mhz): 250; Rating: Catalog; Technology Family: AUC; Voltage(Nom)(V): 0.8,1.2,1.5,1.8,2.5; Schmitt Trigger: No; Output Drive (IOL/IOH)(Max)(mA): 9/-9; Output Logic: Non-inverted; 3-State Output: Yes; tpd @ Nom Voltage(Max)(ns): 7.3,4.5,2.9,2.8,2.2; DatasheetVersion: SCES403E; PackageReference: DGV0048A; Supplier 1: Digi-Key; Supplier Part Number 1: 296-15419-2-ND; Supplier 2: Digi-Key; Supplier Part Number 2: 296-15419-1-ND; Supplier 3: Digi-Key; Supplier Part Number 3: 296-15419-6-ND; Supplier 4: Mouser; Supplier Part Number 4: 595-SN74AUC16374DGVR; Operating Temperature Range(C): -40 to 85; Code_JEDEC: MO-153; ComponentLink1Description: Manufacturer URL; ComponentLink1URL: http://www.ti.com/; ComponentLink2Description: Datasheet; ComponentLink2URL: http://www.ti.com/lit/ds/symlink/sn74auc16374.pdf; ComponentLink3Description: Package Specification; ComponentLink3URL: http://www.ti.com/lit/ml/mpds006c/mpds006c.pdf
footprint DGV0048A_N (SOP, 48-Leads, Body 4.5x9.8mm, Pitch 0.4mm, IPC Medium Density)
footprint DGV0048A_M (SOP, 48-Leads, Body 4.5x9.8mm, Pitch 0.4mm, IPC Low Density)
footprint DGV0048A_L (SOP, 48-Leads, Body 4.5x9.8mm, Pitch 0.4mm, IPC High Density)
part A pins: 1 1OE (in), 2 1Q1 (hiz), 3 1Q2 (hiz), 5 1Q3 (hiz), 6 1Q4 (hiz), 8 1Q5 (hiz), 9 1Q6 (hiz), 11 1Q7 (hiz), 12 1Q8 (hiz), 37 1D8 (in), 38 1D7 (in), 40 1D6 (in), 41 1D5 (in), 43 1D4 (in), 44 1D3 (in), 46 1D2 (in), 47 1D1 (in), 48 1CLK (in)
part B pins: 13 2Q1 (hiz), 14 2Q2 (hiz), 16 2Q3 (hiz), 17 2Q4 (hiz), 19 2Q5 (hiz), 20 2Q6 (hiz), 22 2Q7 (hiz), 23 2Q8 (hiz), 24 2OE (in), 25 2CLK (in), 26 2D8 (in), 27 2D7 (in), 29 2D6 (in), 30 2D5 (in), 32 2D4 (in), 33 2D3 (in), 35 2D2 (in), 36 2D1 (in)
part C pins: 4 GND (power), 7 VCC (power), 10 GND (power), 15 GND (power), 18 VCC (power), 21 GND (power), 28 GND (power), 31 VCC (power), 34 GND (power), 39 GND (power), 42 VCC (power), 45 GND (power)

## SN74AUC32374ZKER
designator U?
32-Bit D-Type Flip-Flops with 3-State Outputs, ZKE0096A, LARGE T&R; Generic Part Number: SN74AUC32374; Manufacturer: Texas Instruments; PartNumber: SN74AUC32374ZKER; DatasheetVersion: SCES475; PackageReference: ZKE0096A; Supplier 1: Digi-Key; Supplier Part Number 1: SN74AUC32374ZKER-ND; Supplier 2: Mouser; Supplier Part Number 2: 595-SN74AUC32374ZKER; Code_JEDEC: MO-205; ComponentLink1Description: Manufacturer URL; ComponentLink1URL: http://www.ti.com/; ComponentLink2Description: Datasheet; ComponentLink2URL: http://www.ti.com/lit/ds/symlink/sn74auc32374.pdf; ComponentLink3Description: Package Specification; ComponentLink3URL: http://www.ti.com/lit/ml/mpbg298b/mpbg298b.pdf
footprint ZKE0096A (BGA, 96-Balls, Body 13.5x5.5mm, Pitch 0.8mm)
part A pins: A1 1Q2 (hiz), A2 1Q1 (hiz), A3 1OE (in), A4 1CLK (in), A5 1D1 (in), A6 1D2 (in), B1 1Q4 (hiz), B2 1Q3 (hiz), B5 1D3 (in), B6 1D4 (in), C1 1Q6 (hiz), C2 1Q5 (hiz), C5 1D5 (in), C6 1D6 (in), D1 1Q8 (hiz), D2 1Q7 (hiz), D5 1D7 (in), D6 1D8 (in)
part B pins: E1 2Q2 (hiz), E2 2Q1 (hiz), E5 2D1 (in), E6 2D2 (in), F1 2Q4 (hiz), F2 2Q3 (hiz), F5 2D3 (in), F6 2D4 (in), G1 2Q6 (hiz), G2 2Q5 (hiz), G5 2D5 (in), G6 2D6 (in), H1 2Q7 (hiz), H2 2Q8 (hiz), H3 2OE (in), H4 2CLK (in), H5 2D8 (in), H6 2D7 (in)
part C pins: J1 3Q2 (hiz), J2 3Q1 (hiz), J3 3OE (in), J4 3CLK (in), J5 3D1 (in), J6 3D2 (in), K1 3Q4 (hiz), K2 3Q3 (hiz), K5 3D3 (in), K6 3D4 (in), L1 3Q6 (hiz), L2 3Q5 (hiz), L5 3D5 (in), L6 3D6 (in), M1 3Q8 (hiz), M2 3Q7 (hiz), M5 3D7 (in), M6 3D8 (in)
part D pins: N1 4Q2 (hiz), N2 4Q1 (hiz), N5 4D1 (in), N6 4D2 (in), P1 4Q4 (hiz), P2 4Q3 (hiz), P5 4D3 (in), P6 4D4 (in), R1 4Q6 (hiz), R2 4Q5 (hiz), R5 4D5 (in), R6 4D6 (in), T1 4Q7 (hiz), T2 4Q8 (hiz), T3 4OE (in), T4 4CLK (in), T5 4D8 (in), T6 4D7 (in)
part E pins: B3 GND (power), B4 GND (power), C3 VCC (power), C4 VCC (power), D3 GND (power), D4 GND (power), E3 GND (power), E4 GND (power), F3 VCC (power), F4 VCC (power), G3 GND (power), G4 GND (power), K3 GND (power), K4 GND (power), L3 VCC (power), L4 VCC (power), M3 GND (power), M4 GND (power), N3 GND (power), N4 GND (power), P3 VCC (power), P4 VCC (power), R3 GND (power), R4 GND (power)

## SN74AUCH16374DGGR
designator U?
16-Bit Edge-Triggered D-Type Flip-Flop With 3-State Outputs, DGG0048A, LARGE T&R; Generic Part Number: SN74AUCH16374; Manufacturer: Texas Instruments; PartNumber: SN74AUCH16374DGGR; VCC(Min)(V): 0.8; VCC(Max)(V): 2.7; Output Type: CMOS; ICC @ Nom Voltage(Max)(mA): 0.02; Input Type: TTL,CMOS; Bits(#): 16; F @ Nom Voltage(Max)(Mhz): 250; Rating: Catalog; Technology Family: AUC; Voltage(Nom)(V): 0.8,1.2,1.5,1.8,2.5; Schmitt Trigger: No; Output Drive (IOL/IOH)(Max)(mA): 9/-9; Output Logic: Non-inverted; 3-State Output: Yes; tpd @ Nom Voltage(Max)(ns): 7.3,4.5,2.9,2.8,2.2; DatasheetVersion: SCES404E; PackageReference: DGG0048A; Supplier 1: Digi-Key; Supplier Part Number 1: 296-17625-2-ND; Supplier 2: Digi-Key; Supplier Part Number 2: 296-17625-1-ND; Supplier 3: Digi-Key; Supplier Part Number 3: 296-17625-6-ND; Supplier 4: Mouser; Supplier Part Number 4: 595-74AUCH16374DGGR; Operating Temperature Range(C): -40 to 85; Code_JEDEC: MO-153; ComponentLink1Description: Manufacturer URL; ComponentLink1URL: http://www.ti.com/; ComponentLink2Description: Datasheet; ComponentLink2URL: http://www.ti.com/lit/ds/symlink/sn74auch16374.pdf; ComponentLink3Description: Package Specification; ComponentLink3URL: http://www.ti.com/lit/ml/mtss003d/mtss003d.pdf
footprint DGG0048A_N (TSSOP, 48-Leads, Body 12.6x6.2mm, Pitch 0.5mm, IPC Medium Density)
footprint DGG0048A_M (TSSOP, 48-Leads, Body 12.6x6.2mm, Pitch 0.5mm, IPC Low Density)
footprint DGG0048A_L (TSSOP, 48-Leads, Body 12.6x6.2mm, Pitch 0.5mm, IPC High Density)
part A pins: 1 1OE (in), 2 1Q1 (hiz), 3 1Q2 (hiz), 5 1Q3 (hiz), 6 1Q4 (hiz), 8 1Q5 (hiz), 9 1Q6 (hiz), 11 1Q7 (hiz), 12 1Q8 (hiz), 37 1D8 (in), 38 1D7 (in), 40 1D6 (in), 41 1D5 (in), 43 1D4 (in), 44 1D3 (in), 46 1D2 (in), 47 1D1 (in), 48 1CLK (in)
part B pins: 13 2Q1 (hiz), 14 2Q2 (hiz), 16 2Q3 (hiz), 17 2Q4 (hiz), 19 2Q5 (hiz), 20 2Q6 (hiz), 22 2Q7 (hiz), 23 2Q8 (hiz), 24 2OE (in), 25 2CLK (in), 26 2D8 (in), 27 2D7 (in), 29 2D6 (in), 30 2D5 (in), 32 2D4 (in), 33 2D3 (in), 35 2D2 (in), 36 2D1 (in)
part C pins: 4 GND (power), 7 VCC (power), 10 GND (power), 15 GND (power), 18 VCC (power), 21 GND (power), 28 GND (power), 31 VCC (power), 34 GND (power), 39 GND (power), 42 VCC (power), 45 GND (power)

## SN74AUCH16374DGVR
designator U?
16-Bit Edge-Triggered D-Type Flip-Flop With 3-State Outputs, DGV0048A, LARGE T&R; Generic Part Number: SN74AUCH16374; Manufacturer: Texas Instruments; PartNumber: SN74AUCH16374DGVR; VCC(Min)(V): 0.8; VCC(Max)(V): 2.7; Output Type: CMOS; ICC @ Nom Voltage(Max)(mA): 0.02; Input Type: TTL,CMOS; Bits(#): 16; F @ Nom Voltage(Max)(Mhz): 250; Rating: Catalog; Technology Family: AUC; Voltage(Nom)(V): 0.8,1.2,1.5,1.8,2.5; Schmitt Trigger: No; Output Drive (IOL/IOH)(Max)(mA): 9/-9; Output Logic: Non-inverted; 3-State Output: Yes; tpd @ Nom Voltage(Max)(ns): 7.3,4.5,2.9,2.8,2.2; DatasheetVersion: SCES404E; PackageReference: DGV0048A; Supplier 1: Digi-Key; Supplier Part Number 1: 296-19067-2-ND; Supplier 2: Digi-Key; Supplier Part Number 2: 296-19067-1-ND; Supplier 3: Digi-Key; Supplier Part Number 3: 296-19067-6-ND; Supplier 4: Newark; Supplier Part Number 4: 73H4433; Supplier 5: Mouser; Supplier Part Number 5: 595-74AUCH16374DGVR; Operating Temperature Range(C): -40 to 85; Code_JEDEC: MO-153; ComponentLink1Description: Manufacturer URL; ComponentLink1URL: http://www.ti.com/; ComponentLink2Description: Datasheet; ComponentLink2URL: http://www.ti.com/lit/ds/symlink/sn74auch16374.pdf; ComponentLink3Description: Package Specification; ComponentLink3URL: http://www.ti.com/lit/ml/mpds006c/mpds006c.pdf
footprint DGV0048A_N (SOP, 48-Leads, Body 4.5x9.8mm, Pitch 0.4mm, IPC Medium Density)
footprint DGV0048A_M (SOP, 48-Leads, Body 4.5x9.8mm, Pitch 0.4mm, IPC Low Density)
footprint DGV0048A_L (SOP, 48-Leads, Body 4.5x9.8mm, Pitch 0.4mm, IPC High Density)
part A pins: 1 1OE (in), 2 1Q1 (hiz), 3 1Q2 (hiz), 5 1Q3 (hiz), 6 1Q4 (hiz), 8 1Q5 (hiz), 9 1Q6 (hiz), 11 1Q7 (hiz), 12 1Q8 (hiz), 37 1D8 (in), 38 1D7 (in), 40 1D6 (in), 41 1D5 (in), 43 1D4 (in), 44 1D3 (in), 46 1D2 (in), 47 1D1 (in), 48 1CLK (in)
part B pins: 13 2Q1 (hiz), 14 2Q2 (hiz), 16 2Q3 (hiz), 17 2Q4 (hiz), 19 2Q5 (hiz), 20 2Q6 (hiz), 22 2Q7 (hiz), 23 2Q8 (hiz), 24 2OE (in), 25 2CLK (in), 26 2D8 (in), 27 2D7 (in), 29 2D6 (in), 30 2D5 (in), 32 2D4 (in), 33 2D3 (in), 35 2D2 (in), 36 2D1 (in)
part C pins: 4 GND (power), 7 VCC (power), 10 GND (power), 15 GND (power), 18 VCC (power), 21 GND (power), 28 GND (power), 31 VCC (power), 34 GND (power), 39 GND (power), 42 VCC (power), 45 GND (power)

## SN74AUCH16374ZQLR
designator U?
16-Bit Edge-Triggered D-Type Flip-Flop With 3-State Outputs, ZQL0056A, LARGE T&R; Generic Part Number: SN74AUCH16374; Manufacturer: Texas Instruments; PartNumber: SN74AUCH16374ZQLR; VCC(Min)(V): 0.8; VCC(Max)(V): 2.7; Output Type: CMOS; ICC @ Nom Voltage(Max)(mA): 0.02; Input Type: TTL,CMOS; Bits(#): 16; F @ Nom Voltage(Max)(Mhz): 250; Rating: Catalog; Technology Family: AUC; Voltage(Nom)(V): 0.8,1.2,1.5,1.8,2.5; Schmitt Trigger: No; Output Drive (IOL/IOH)(Max)(mA): 9/-9; Output Logic: Non-inverted; 3-State Output: Yes; tpd @ Nom Voltage(Max)(ns): 7.3,4.5,2.9,2.8,2.2; DatasheetVersion: SCES404E; PackageReference: ZQL0056A; Supplier 1: Digi-Key; Supplier Part Number 1: SN74AUCH16374ZQLR-ND; Supplier 2: Mouser; Supplier Part Number 2: 595-74AUCH16374ZQLR; Operating Temperature Range(C): -40 to 85; Code_JEDEC: MO-285; ComponentLink1Description: Manufacturer URL; ComponentLink1URL: http://www.ti.com/; ComponentLink2Description: Datasheet; ComponentLink2URL: http://www.ti.com/lit/ds/symlink/sn74auch16374.pdf; ComponentLink3Description: Package Specification; ComponentLink3URL: http://www.ti.com/lit/ml/mpbg302g/mpbg302g.pdf
footprint ZQL0056A (BGA, 56-Balls, Body 7x4.5mm, Pitch 0.65mm)
part A pins: A1 1~{OE} (in), A6 1CLK (in), B1 1Q2 (hiz), B2 1Q1 (hiz), B5 1D1 (in), B6 1D2 (in), C1 1Q4 (hiz), C2 1Q3 (hiz), C5 1D3 (in), C6 1D4 (in), D1 1Q6 (hiz), D2 1Q5 (hiz), D5 1D5 (in), D6 1D6 (in), E1 1Q8 (hiz), E2 1Q7 (hiz), E5 1D7 (in), E6 1D8 (in)
part B pins: F1 2Q1 (hiz), F2 2Q2 (hiz), F5 2D2 (in), F6 2D1 (in), G1 2Q3 (hiz), G2 2Q4 (hiz), G5 2D4 (in), G6 2D3 (in), H1 2Q5 (hiz), H2 2Q6 (hiz), H5 2D6 (in), H6 2D5 (in), J1 2Q7 (hiz), J2 2Q8 (hiz), J5 2D8 (in), J6 2D7 (in), K1 2~{OE} (in), K6 2CLK (in)
part C pins: B3 GND (power), B4 GND (power), C3 VCC (power), C4 VCC (power), D3 GND (power), D4 GND (power), G3 GND (power), G4 GND (power), H3 VCC (power), H4 VCC (power), J3 GND (power), J4 GND (power)
part D pins: A2 NC, A3 NC, A4 NC, A5 NC, K2 NC, K3 NC, K4 NC, K5 NC

## SN74AUCH32374ZKER
designator U?
32-BIT EDGE-TRIGGERED D-TYPE FLIP-FLOP WITH 3-STATE OUTPUTS, ZKE0096A, LARGE T&R; Generic Part Number: SN74AUCH32374; Manufacturer: Texas Instruments; PartNumber: SN74AUCH32374ZKER; VCC(Min)(V): 0.8; VCC(Max)(V): 2.7; Output Type: CMOS; ICC @ Nom Voltage(Max)(mA): 0.04; Input Type: TTL,CMOS; Bits(#): 32; F @ Nom Voltage(Max)(Mhz): 250; Rating: Catalog; Technology Family: AUC; Voltage(Nom)(V): 0.8,1.2,1.5,1.8,2.5; Schmitt Trigger: No; Output Drive (IOL/IOH)(Max)(mA): 9/-9; Output Logic: Non-inverted; 3-State Output: Yes; tpd @ Nom Voltage(Max)(ns): 7.3,4.5,2.9,2.8,2.2; DatasheetVersion: SCES476; PackageReference: ZKE0096A; Supplier 1: Digi-Key; Supplier Part Number 1: SN74AUCH32374ZKER-ND; Supplier 2: Mouser; Supplier Part Number 2: 595-74AUCH32374ZKER; Operating Temperature Range(C): -40 to 85; Code_JEDEC: MO-205; ComponentLink1Description: Manufacturer URL; ComponentLink1URL: http://www.ti.com/; ComponentLink2Description: Datasheet; ComponentLink2URL: http://www.ti.com/lit/ds/symlink/sn74auch32374.pdf; ComponentLink3Description: Package Specification; ComponentLink3URL: http://www.ti.com/lit/ml/mpbg298b/mpbg298b.pdf
footprint ZKE0096A (BGA, 96-Balls, Body 13.5x5.5mm, Pitch 0.8mm)
part A pins: A1 1Q2 (hiz), A2 1Q1 (hiz), A3 1OE (in), A4 1CLK (in), A5 1D1 (in), A6 1D2 (in), B1 1Q4 (hiz), B2 1Q3 (hiz), B5 1D3 (in), B6 1D4 (in), C1 1Q6 (hiz), C2 1Q5 (hiz), C5 1D5 (in), C6 1D6 (in), D1 1Q8 (hiz), D2 1Q7 (hiz), D5 1D7 (in), D6 1D8 (in)
part B pins: E1 2Q2 (hiz), E2 2Q1 (hiz), E5 2D1 (in), E6 2D2 (in), F1 2Q4 (hiz), F2 2Q3 (hiz), F5 2D3 (in), F6 2D4 (in), G1 2Q6 (hiz), G2 2Q5 (hiz), G5 2D5 (in), G6 2D6 (in), H1 2Q7 (hiz), H2 2Q8 (hiz), H3 2OE (in), H4 2CLK (in), H5 2D8 (in), H6 2D7 (in)
part C pins: J1 3Q2 (hiz), J2 3Q1 (hiz), J3 3OE (in), J4 3CLK (in), J5 3D1 (in), J6 3D2 (in), K1 3Q4 (hiz), K2 3Q3 (hiz), K5 3D3 (in), K6 3D4 (in), L1 3Q6 (hiz), L2 3Q5 (hiz), L5 3D5 (in), L6 3D6 (in), M1 3Q8 (hiz), M2 3Q7 (hiz), M5 3D7 (in), M6 3D8 (in)
part D pins: N1 4Q2 (hiz), N2 4Q1 (hiz), N5 4D1 (in), N6 4D2 (in), P1 4Q4 (hiz), P2 4Q3 (hiz), P5 4D3 (in), P6 4D4 (in), R1 4Q6 (hiz), R2 4Q5 (hiz), R5 4D5 (in), R6 4D6 (in), T1 4Q7 (hiz), T2 4Q8 (hiz), T3 4OE (in), T4 4CLK (in), T5 4D8 (in), T6 4D7 (in)
part E pins: B3 GND (power), B4 GND (power), C3 VCC (power), C4 VCC (power), D3 GND (power), D4 GND (power), E3 GND (power), E4 GND (power), F3 VCC (power), F4 VCC (power), G3 GND (power), G4 GND (power), K3 GND (power), K4 GND (power), L3 VCC (power), L4 VCC (power), M3 GND (power), M4 GND (power), N3 GND (power), N4 GND (power), P3 VCC (power), P4 VCC (power), R3 GND (power), R4 GND (power)

## SN74AVC16373DGGR
designator U?
16-Bit Transparent D-Type Latch With 3-State Outputs, DGG0048A, LARGE T&R; Generic Part Number: SN74AVC16373; Manufacturer: Texas Instruments; PartNumber: SN74AVC16373DGGR; VCC(Min)(V): 1.4; VCC(Max)(V): 3.6; Output Type: CMOS; Logic: True; Static Current: 0.04; Input Type: CMOS,TTL; Bits(#): 16; F @ Nom Voltage(Max)(Mhz): 200; Rating: Catalog; Technology Family: AVC; Voltage(Nom)(V): 1.2,1.5,1.8,2.5,3.3; Schmitt Trigger: No; Output Drive (IOL/IOH)(Max)(mA): 12/-12; Output Logic: Non-inverted; 3-State Output: Yes; tpd @ Nom Voltage(Max)(ns): 5.8,6.8,5.7,3.3,2.8; DatasheetVersion: SCES156H; PackageReference: DGG0048A; Supplier 1: Digi-Key; Supplier Part Number 1: 296-9791-2-ND; Supplier 2: Digi-Key; Supplier Part Number 2: 296-9791-1-ND; Supplier 3: Digi-Key; Supplier Part Number 3: 296-9791-6-ND; Supplier 4: Newark; Supplier Part Number 4: 76C2763; Supplier 5: Mouser; Supplier Part Number 5: 595-SN74AVC16373DGGR; ICC @ Nom Voltage(Max)(mA): 0.04; Operating Temperature Range(C): -40 to 85; Code_JEDEC: MO-153; ComponentLink1Description: Manufacturer URL; ComponentLink1URL: http://www.ti.com/; ComponentLink2Description: Datasheet; ComponentLink2URL: http://www.ti.com/lit/ds/symlink/sn74avc16373.pdf; ComponentLink3Description: Package Specification; ComponentLink3URL: http://www.ti.com/lit/ml/mtss003d/mtss003d.pdf
footprint DGG0048A_N (TSSOP, 48-Leads, Body 12.6x6.2mm, Pitch 0.5mm, IPC Medium Density)
footprint DGG0048A_M (TSSOP, 48-Leads, Body 12.6x6.2mm, Pitch 0.5mm, IPC Low Density)
footprint DGG0048A_L (TSSOP, 48-Leads, Body 12.6x6.2mm, Pitch 0.5mm, IPC High Density)
part A pins: 1 1~{OE} (in) "Output Enable 1", 2 1Q1 (hiz) "1Q1 Output", 3 1Q2 (hiz) "1Q2 Output", 5 1Q3 (hiz) "1Q3 Output", 6 1Q4 (hiz) "1Q4 Output", 8 1Q5 (hiz) "1Q5 Output", 9 1Q6 (hiz) "1Q6 Output", 11 1Q7 (hiz) "1Q7 Output", 12 1Q8 (hiz) "1Q8 Output", 37 1D8 (in) "1D8 Input", 38 1D7 (in) "1D7 Input", 40 1D6 (in) "1D6 Input", 41 1D5 (in) "1D5 Input", 43 1D4 (in) "1D4 Input", 44 1D3 (in) "1D3 Input", 46 1D2 (in) "1D2 Input", 47 1D1 (in) "1D1 Input", 48 1LE (in) "Latch Enable 1"
part B pins: 13 2Q1 (hiz) "2Q1 Output", 14 2Q2 (hiz) "2Q2 Output", 16 2Q3 (hiz) "2Q3 Output", 17 2Q4 (hiz) "2Q4 Output", 19 2Q5 (hiz) "Output", 20 2Q6 (hiz) "2Q6 Output", 22 2Q7 (hiz) "2Q7 Output", 23 2Q8 (hiz) "2Q8 Output", 24 2~{OE} (in) "Output Enable 2", 25 2LE (in) "2LE Input", 26 2D8 (in) "2D8 Input", 27 2D7 (in) "2D7 Input", 29 2D6 (in) "2D6 Input", 30 2D5 (in) "2D5 Input", 32 2D4 (in) "2D4 Input", 33 2D3 (in) "2D3 Input", 35 2D2 (in) "2D2 Input", 36 2D1 (in) "2D1 Input"
part C pins: 4 GND (power) "Ground Pin", 7 VCC (power) "Power Pin", 10 GND (power) "Ground Pin", 15 GND (power) "Ground Pin", 18 VCC (power) "Power Pin", 21 GND (power) "Ground Pin", 28 GND (power) "Ground Pin", 31 VCC (power) "Power Pin", 34 GND (power) "Ground Pin", 39 GND (power) "Ground Pin", 42 VCC (power) "Power Pin", 45 GND (power) "Ground Pin"

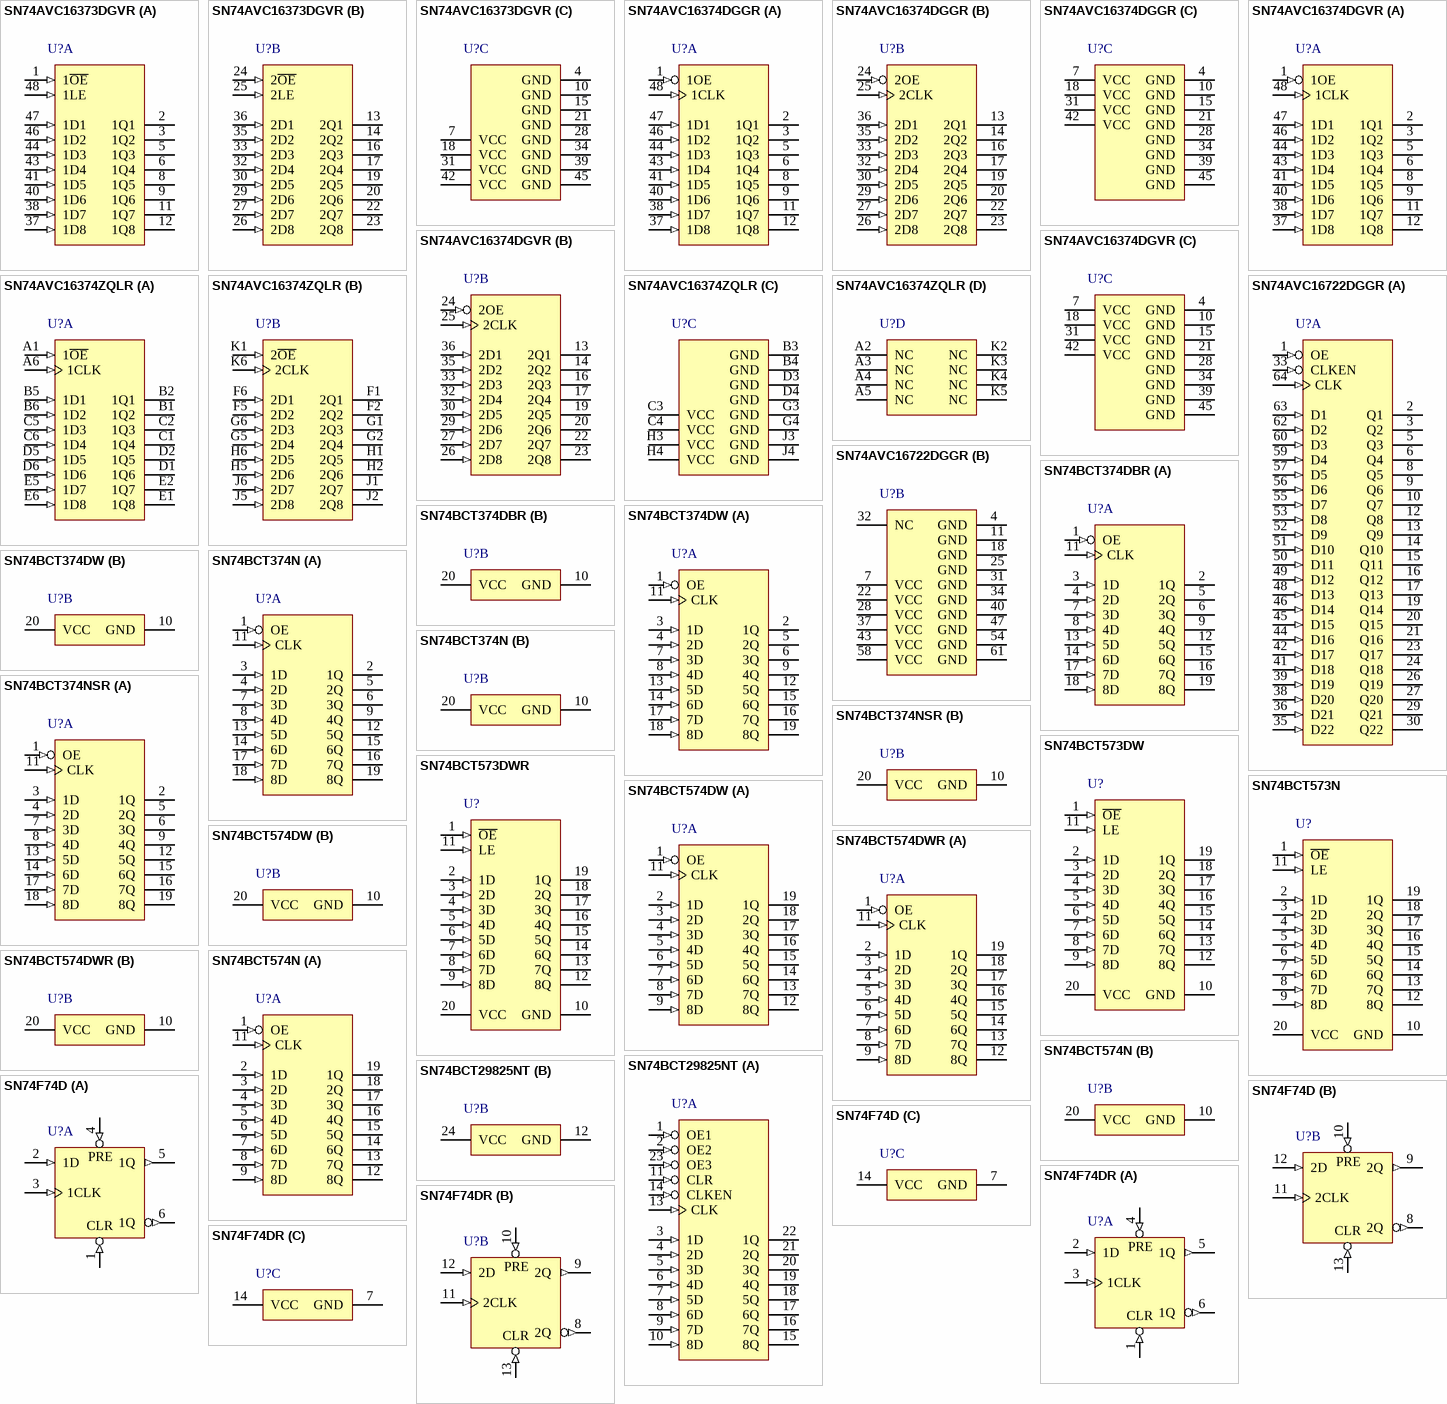
[diagram p84: symbols SN74AVC16373DGVR to SN74F74DR]